# Altium schematic symbol library AD_lib.SchLib: 9 symbols
Pins are listed as number, name and electrical type; pins without a type are passive.

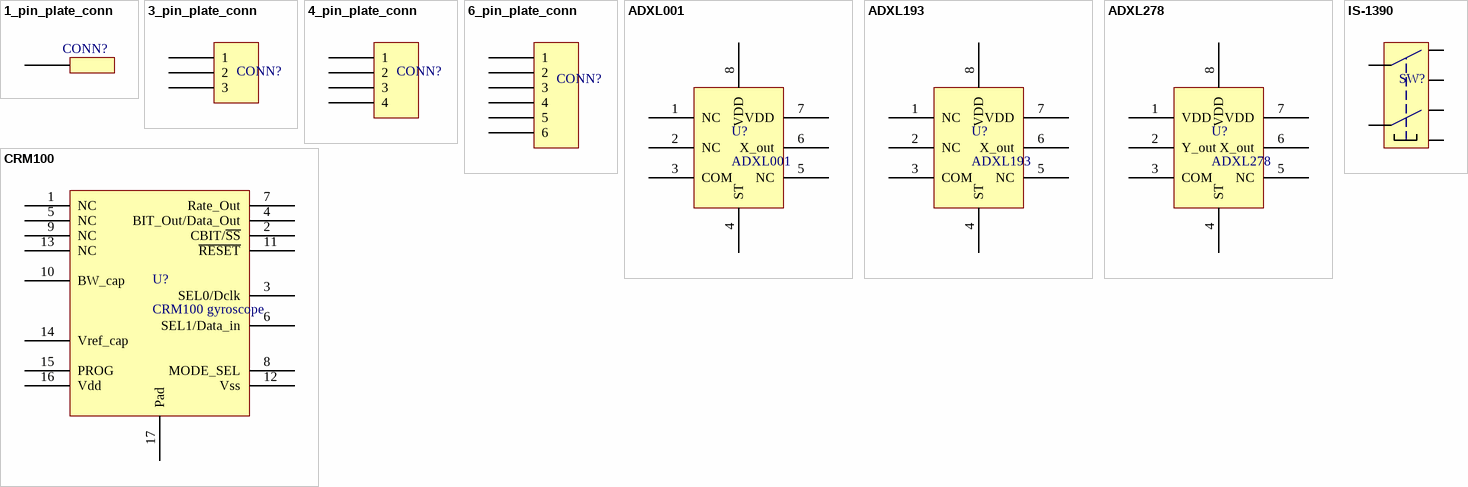
[diagram p0: symbols 1_pin_plate_conn to IS-1390]

## 1_pin_plate_conn
designator CONN?  (value not drawn)
footprint 1_pin_plate_conn
pins: 1

## 3_pin_plate_conn
designator CONN?  (value not drawn)
footprint 3_pin_plate_conn
pins: 1, 2, 3

## 4_pin_plate_conn
designator CONN?  (value not drawn)
footprint 4_pin_plate_conn
pins: 1, 2, 3, 4

## 6_pin_plate_conn
designator CONN?  (value not drawn)
footprint 6_pin_plate_conn
pins: 1, 2, 3, 4, 5, 6

## ADXL001
designator U?
Analog devices accelerometer
footprint E-8-1 (LCC, 8-Pins, Body 5,03x5,03mmx2,16mm, Pitch 1,27mm, IPC Low Density)
pins: 1 NC, 2 NC, 3 COM, 4 ST, 5 NC, 6 X_out, 7 VDD, 8 VDD

## ADXL193
designator U?
Analog devices accelerometer
footprint E-8-1 (LCC, 8-Pins, Body 5,03x5,03mmx2,16mm, Pitch 1,27mm, IPC Low Density)
pins: 1 NC, 2 NC, 3 COM, 4 ST, 5 NC, 6 X_out, 7 VDD, 8 VDD

## ADXL278
designator U?
Analog devices accelerometer
footprint E-8-1 (LCC, 8-Pins, Body 5,03x5,03mmx2,16mm, Pitch 1,27mm, IPC Low Density)
pins: 1 VDD, 2 Y_out, 3 COM, 4 ST, 5 NC, 6 X_out, 7 VDD, 8 VDD

## CRM100
designator U?, comment CRM100 gyroscope
footprint CRM100
pins: 1 NC, 2 CBIT/~{SS}, 3 SEL0/Dclk, 4 BIT_Out/Data_Out, 5 NC, 6 SEL1/Data_in, 7 Rate_Out, 8 MODE_SEL, 9 NC, 10 BW_cap, 11 ~{RESET}, 12 Vss, 13 NC, 14 Vref_cap, 15 PROG, 16 Vdd, 17 Pad

## IS-1390
designator SW?, comment IS-1390 switch  (value not drawn)
footprint IS1390 (TSOP, 6-Leads, Body 7,00x3,50mm, Pitch 2,50mm, IPC Low Density)
pins: 1, 2, 3, 4, 5, 6